# EAGLE library part RESISTOR_ARRAY_8 (library SRG)
Resistor Array, Isolated Example: Bourns 4816P-1-101LF
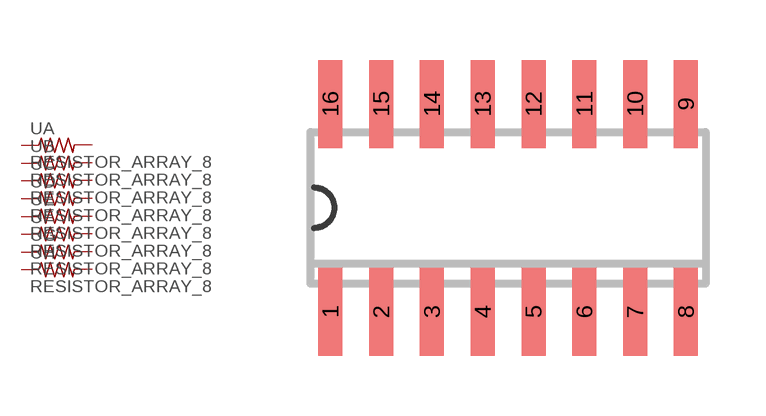
[diagram p7: symbol with the pads of SOIC-16; footprint SOIC-16]

Designator prefix -; gates B=RESISTOR C=RESISTOR D=RESISTOR E=RESISTOR F=RESISTOR G=RESISTOR H=RESISTOR A=RESISTOR

## RESISTOR_ARRAY_8  [SOIC-16]
1  A:1  pas
2  B:1  pas
3  C:1  pas
4  D:1  pas
5  E:1  pas
6  F:1  pas
7  G:1  pas
8  H:1  pas
9  H:2  pas
10  G:2  pas
11  F:2  pas
12  E:2  pas
13  D:2  pas
14  C:2  pas
15  B:2  pas
16  A:2  pas

## Footprint SOIC-16 (pad centres in mm)
SOIC-16
smd 0.6 x 2.2: 1 -4.445,-2.6; 2 -3.175,-2.6; 3 -1.905,-2.6; 4 -0.635,-2.6; 5 0.635,-2.6; 6 1.905,-2.6; 7 3.175,-2.6; 8 4.445,-2.6; 9 4.445,2.6; 10 3.175,2.6; 11 1.905,2.6; 12 0.635,2.6; 13 -0.635,2.6; 14 -1.905,2.6; 15 -3.175,2.6; 16 -4.445,2.6